# Altium integrated library HyTechDevicesAltium.IntLib: 9 symbols
Pins are listed as number, name and electrical type; pins without a type are passive.

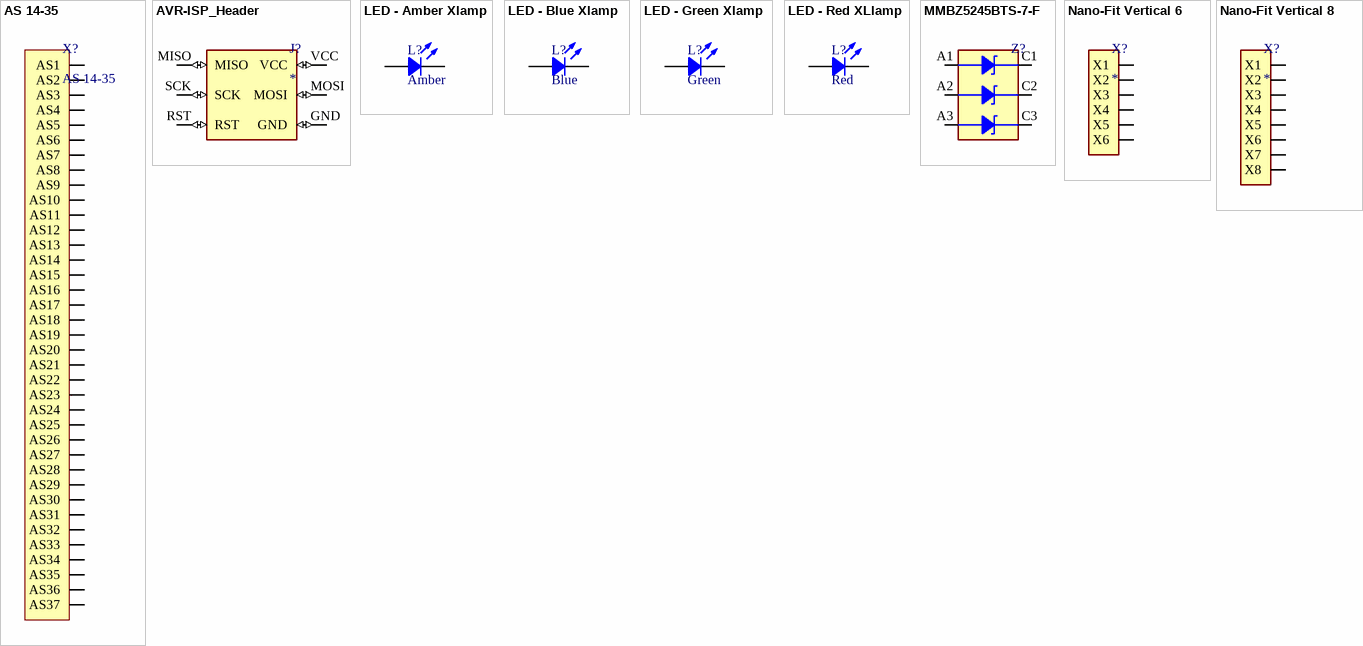
[diagram p0: symbols AS 14-35 to Nano-Fit Vertical 8]

## AS 14-35
designator X?
37 pin Autosport
footprint AS 14-35 (35 pin autosport); pin to pad AS1>1 AS2>2 AS3>3 AS4>4 AS5>5 AS6>6 AS7>7 AS8>8 AS9>9 AS10>10 AS11>11 AS12>12 AS13>13 AS14>14 AS15>15 AS16>16 AS17>17 AS18>18 AS19>19 AS20>20 AS21>21 AS22>22 AS23>23 AS24>24 AS25>25 AS26>26 AS27>27 AS28>28 AS29>29 AS30>30 AS31>31 AS32>32 AS33>33 AS34>34 AS35>35 AS36>36 AS37>37
pins: AS1, AS2, AS3, AS4, AS5, AS6, AS7, AS8, AS9, AS10, AS11, AS12, AS13, AS14, AS15, AS16, AS17, AS18, AS19, AS20, AS21, AS22, AS23, AS24, AS25, AS26, AS27, AS28, AS29, AS30, AS31, AS32, AS33, AS34, AS35, AS36, AS37

## AVR-ISP_Header
designator J?
footprint AVR-ISP Header
pins: GND (io), MISO (io), MOSI (io), RST (io), SCK (io), VCC (io)

## LED - Amber Xlamp
designator L?, comment Amber
Amber LED Cree XLamp XP-E2 / XPEBAM-L1-0000-00601; Supplier 1: Digi-Key; Supplier 2: Digi-Key; Supplier 3: Arrow; Supplier 4: Newark; Supplier 5: Newark; Supplier 6: Avnet; Supplier 7: Mouser; Supplier 8: Digi-Key; Supplier 9: Farnell; Supplier 10: Farnell; Supplier 11: Digi-Key; Supplier Part Number 1: XPEBAM-L1-0000-00601CT-ND; Supplier Part Number 2: XPEBAM-L1-0000-00601DKR-ND; Supplier Part Number 4: 49AC0940; Supplier Part Number 3: XPEBAM-L1-0000-00601; Supplier Part Number 5: 95W0551; Supplier Part Number 6: XPEBAM-L1-0000-00601; Supplier Part Number 7: 941-XPEBAML10000601; Supplier Part Number 8: XPEBAM-L1-0000-00601TR-ND; Supplier Part Number 9: 2839920; Supplier Part Number 10: 2839920RL; Supplier Part Number 11: XPEBAM-L1-0000-00601-ND
footprint Cree XLamp (XP-E2); pin to pad 1>V+ 2>V-
pins: 1, 2

## LED - Blue Xlamp
designator L?, comment Blue
Blue LED Cree XLamp XP-E2 / XPEBBL-L1-0000-00Y01; Supplier 1: Digi-Key; Supplier 2: Digi-Key; Supplier 3: Mouser; Supplier 4: Avnet; Supplier 5: Digi-Key; Supplier 6: RSComponents; Supplier 7: RSComponents; Supplier 8: RSComponents; Supplier 9: Arrow; Supplier 10: Digi-Key; Supplier Part Number 9: XPEBBL-L1-0000-00Y01; Supplier Part Number 8: 1629932; Supplier Part Number 10: XPEBBL-L1-0000-00Y01-ND; Supplier Part Number 7: 9076677P; Supplier Part Number 6: 9076677; Supplier Part Number 4: XPEBBL-L1-0000-00Y01; Supplier Part Number 3: 941-XPEBBLL10000Y01; Supplier Part Number 5: XPEBBL-L1-0000-00Y01TR-ND; Supplier Part Number 2: XPEBBL-L1-0000-00Y01DKR-ND; Supplier Part Number 1: XPEBBL-L1-0000-00Y01CT-ND
footprint Cree XLamp (XP-E2); pin to pad 1>V+ 2>V-
pins: 1, 2

## LED - Green Xlamp
designator L?, comment Green
Green LED Cree XLamp XP-E2 / XPEBGR-L1-0000-00A01; Supplier 1: Digi-Key; Supplier 2: Digi-Key; Supplier 3: Digi-Key; Supplier 4: Arrow; Supplier 5: Newark; Supplier 6: Mouser; Supplier 7: Newark; Supplier 8: Avnet; Supplier 9: Farnell; Supplier 10: Farnell; Supplier 11: Digi-Key; Supplier Part Number 11: XPEBGR-L1-0000-00A01-ND; Supplier Part Number 10: 2839922RL; Supplier Part Number 9: 2839922; Supplier Part Number 7: 95W0598; Supplier Part Number 3: XPEBGR-L1-0000-00A01TR-ND; Supplier Part Number 6: 941-XPEBGRL10000A01; Supplier Part Number 8: XPEBGR-L1-0000-00A01; Supplier Part Number 5: 49AC0942; Supplier Part Number 4: XPEBGR-L1-0000-00A01; Supplier Part Number 2: XPEBGR-L1-0000-00A01DKR-ND; Supplier Part Number 1: XPEBGR-L1-0000-00A01CT-ND
footprint Cree XLamp (XP-E2); pin to pad 1>V+ 2>V-
pins: 1, 2

## LED - Red XLlamp
designator L?, comment Red
Red LED Cree XLamp XP-E2 / XPEBRD-L1-R250-00502; Supplier 1: Mouser; Supplier 2: Avnet; Supplier 3: Digi-Key; Supplier 4: Arrow; Supplier Part Number 2: XPEBRD-L1-R250-00502; Supplier Part Number 1: 941-XPEBRDL1R250502; Supplier Part Number 3: XPEBRD-L1-R250-00502-ND; Supplier Part Number 4: XPEBRD-L1-R250-00502
footprint Cree XLamp (XP-E2); pin to pad 1>V+ 2>V-
pins: 1, 2

## MMBZ5245BTS-7-F
designator Z?  (value not drawn)
Three independent zener diodes in an array; ComponentLink1Description: New link; ComponentLink1URL: *; Supplier 1: Digi-Key; Supplier 2: Digi-Key; Supplier 3: Digi-Key; Supplier 4: Mouser; Supplier 5: Avnet; Supplier 6: Arrow; Supplier 7: Digi-Key; Supplier Part Number 1: MMBZ5245BTS-7-FDICT-ND; Supplier Part Number 2: MMBZ5245BTS-7-FDIDKR-ND; Supplier Part Number 3: MMBZ5245BTS-7-FDITR-ND; Supplier Part Number 4: 621-MMBZ5245BTS-7-F; Supplier Part Number 6: MMBZ5245BTS-7-F; Supplier Part Number 5: MMBZ5245BTS-7-F; Supplier Part Number 7: MMBZ5245BTS-7-F-ND
footprint SOT-363; pin to pad A1>1 A2>2 A3>3 C1>6 C2>5 C3>4
pins: A1, A2, A3, C1, C2, C3

## Nano-Fit Vertical 6
designator X?
footprint Nano-Fit Vertical 6
pins: 1 X1, 2 X2, 3 X3, 4 X4, 5 X5, 6 X6

## Nano-Fit Vertical 8
designator X?
footprint NANO-FIT VERTICAL 8
pins: 1 X1, 2 X2, 3 X3, 4 X4, 5 X5, 6 X6, 7 X7, 8 X8